# Altium footprint library Regulator.PcbLib: 14 footprints
Each footprint in its own frame and in the unit in brackets; x right, y up, seen from the top. Pads: shape width x height; smd on the part's side, far side on the other; paste and mask are expansions set on the pad; w line width, h text height; cw(c..) or ccw(c..) is an arc to the next point about the centre after c.
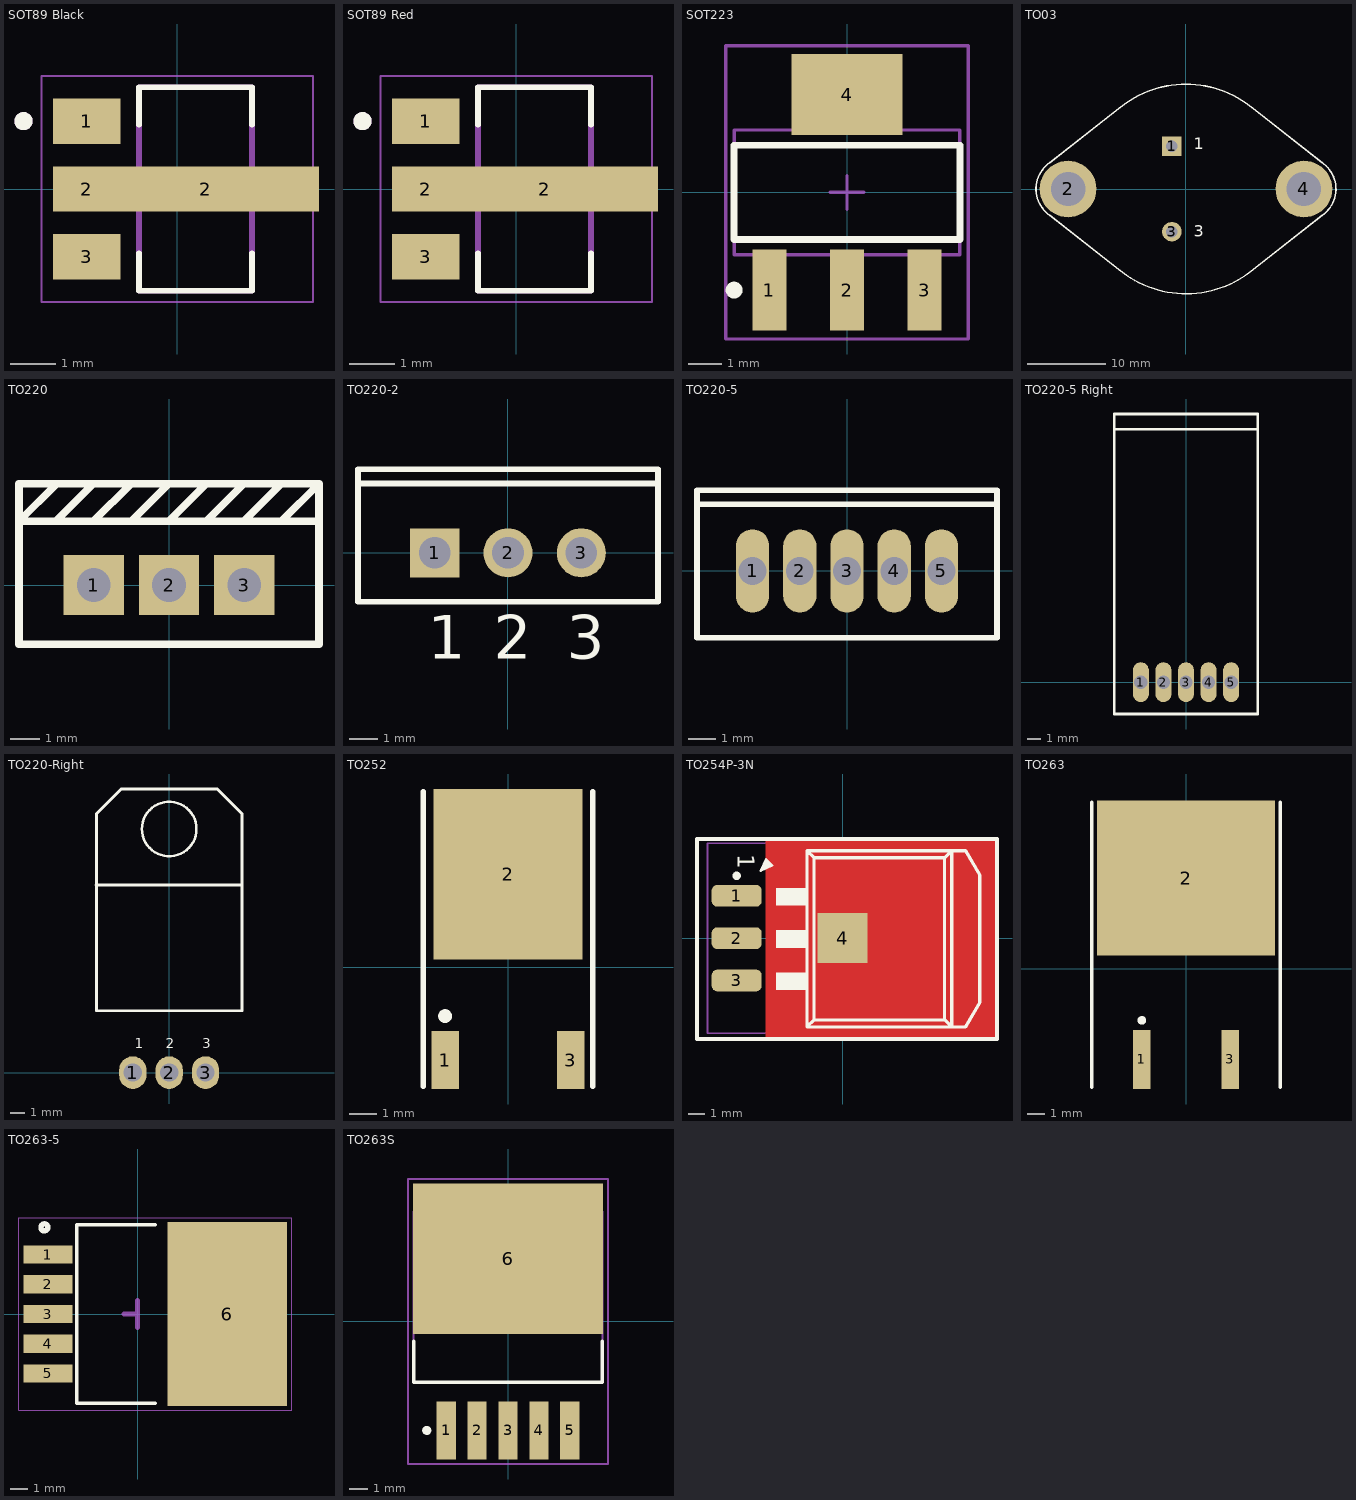
[diagram p0: the footprints below, top view; thin cyan lines are the x and y axes]

## SOT89 Black [mm]
pads (4):
  rect 1.5x1 smd mask+0: 1(-2,1.5) 3(-2,-1.5)
  rect 1.5x1 smd paste-2 mask+0: 2(-2,0)
  rect 5x1 smd paste-2 mask+0: 2(0.635,0)
Top Overlay:
  circle w0.2: c-3.4,1.5 r0.1
  lines w0.127: -0.845,-1.42 -0.845,-2.25 1.655,-2.25 1.655,-1.42 ; -0.845,1.42 -0.845,2.25 1.655,2.25 1.655,1.42
Top Solder:
  region: -1.18,-2.07 -2.82,-2.07 -2.82,-0.93 -1.18,-0.93
  region: -1.18,0.93 -2.82,0.93 -2.82,2.07 -1.18,2.07
Mechanical 13:
  circle w0.2: c-3.4,1.5 r0.1
  lines w0.127: -0.845,-2.25 1.655,-2.25 1.655,2.25 -0.845,2.25 -0.845,-2.25
Mechanical 15:
  lines w0.05: -3,-2.5 3,-2.5 3,2.5 -3,2.5 -3,-2.5
3D body "CircuitWorks-SOT-89.step": height 1.5, standoff 0, extent -2,-2.159 2,2.341

## SOT89 Red [mm]
pads (4):
  rect 1.5x1 smd mask+0: 1(-2,1.5) 3(-2,-1.5)
  rect 1.5x1 smd paste-2 mask+0: 2(-2,0)
  rect 5x1 smd paste-2 mask+0: 2(0.635,0)
Top Overlay:
  circle w0.2: c-3.4,1.5 r0.1
  lines w0.127: -0.845,-1.42 -0.845,-2.25 1.655,-2.25 1.655,-1.42 ; -0.845,1.42 -0.845,2.25 1.655,2.25 1.655,1.42
Top Solder:
  region: -1.18,0.93 -2.82,0.93 -2.82,2.07 -1.18,2.07
  region: -1.18,-2.07 -2.82,-2.07 -2.82,-0.93 -1.18,-0.93
Mechanical 13:
  circle w0.2: c-3.4,1.5 r0.1
  lines w0.127: -0.845,-2.25 -0.845,2.25 1.655,2.25 1.655,-2.25 -0.845,-2.25
Mechanical 15:
  lines w0.05: -3,-2.5 -3,2.5 3,2.5 3,-2.5 -3,-2.5
3D body "CircuitWorks-SOT89.step": height 1.58, standoff 0.08, extent -2,-2.286 2,2.214

## SOT223 [mm]
pads (4):
  rect 1x2.4 smd: 1(-2.3,-2.9) 2(0,-2.9) 3(2.3,-2.9)
  rect 3.3x2.4 smd: 4(0,2.9)
Top Overlay:
  circle w0.25: c-3.35,-2.9 r0.125
  lines w0.2: -3.35,-1.4 -3.35,1.4 3.35,1.4 3.35,-1.4 -3.35,-1.4
Mechanical 13:
  lines w0.1: -3.35,-1.85 -3.35,1.85 3.35,1.85 3.35,-1.85 -3.35,-1.85
Mechanical 15:
  lines w0.1: -0.5,0 0.5,0 ; 0,-0.5 0,0.5 ; -3.6,-4.35 -3.6,4.35 3.6,4.35 3.6,-4.35 -3.6,-4.35
3D body "CircuitWorks-SOT-223.SLDPRT": height 1.66, standoff -0.02, extent -3.25,-3.48 3.25,3.48

## TO03 [mm]
pads (4):
  rect 2.5x2.5 hole 1.5: 1(-1.815,5.46)
  round 7.25 hole 4.4: 2(-15.075,0) 4(15.075,0)
  round 2.5 hole 1.5: 3(-1.815,-5.46)
Top Overlay:
  lines w0.2: -17.427,-3.359 -8.299,-10.521 ; -17.427,-3.358 cw(c-15.075,0) -17.427,3.359 -8.299,10.521 ; -8.613,-10.265 ccw(c0,0) 8.298,-10.521 17.427,-3.359 ; -8.613,10.265 cw(c0,0) 8.613,10.265 ; 8.299,10.521 17.427,3.359 ; 17.308,3.439 cw(c15.075,0) 17.427,-3.358
  text "3" at 1.016,-6.096 h1.5
  text "1" at 1.016,5.08 h1.5
3D body "TO-03.STEP": height 9.15, standoff -2.75, extent -19.65,-13 19.65,13

## TO220 [mil]
pads (3):
  rect 80x80 hole 45: 1(-100,0) 2(0,0) 3(100,0)
Top Overlay:
  lines w10: -150.5,85 -100.5,135 ; -149.5,135 -199.5,85 ; -100.5,85 -50.5,135 ; -50.5,85 -0.5,135 ; -0.5,85 49.5,135 ; 49.5,85 99.5,135 ; 99.5,85 149.5,135 ; 149.5,85 199.5,135 ; -199.5,85 -199.5,135 199.5,135 ; -199.5,85 199.5,85 ; -199.5,85 -199.5,-78.74 199.5,-78.74 199.5,85 ; 199.5,85 199.5,135
3D body "User Library-TO-220-4.STEP": height 789.77, standoff -344.09, extent -200.78,-68.89 200.79,108.27

## TO220-2 [mm]
pads (3):
  rect 1.7x1.7 hole 1.1: 1(-2.54,0)
  round 1.7 hole 1.1: 2(0,0) 3(2.54,0)
Top Overlay:
  lines w0.2: -5.2,2.4 5.2,2.4 ; -5.2,-1.7 5.2,-1.7 5.2,2.9 -5.2,2.9 -5.2,-1.7
  text "2" at -0.5,-3.675 h1.5
  text "3" at 2.04,-3.675 h1.5
  text "1" at -2.79,-3.675 h1.5
3D body "TO220.STEP": height 21.33, standoff -8, extent -5.606,-1.495 5.607,3.195

## TO220-5 [mm]
height 4.5
pads (5):
  oval 1.2x3 hole 1: 1(-3.4,0) 2(-1.7,0) 3(0,0) 4(1.7,0) 5(3.4,0)
Top Overlay:
  lines w0.2: -5.4,2.4 5.4,2.4 ; -5.4,-2.4 -5.4,2.9 5.4,2.9 5.4,-2.4 -5.4,-2.4
3D body "alsrobot-TO-220-5H.STEP": height 16.06, standoff -12.87, extent -5.08,-1.758 5.082,2.763

## TO220-5 Right [mm]
height 4.5
pads (5):
  oval 1.2x3 hole 1: 1(-3.4,0) 2(-1.7,0) 3(0,0) 4(1.7,0) 5(3.4,0)
Top Overlay:
  lines w0.2: -5.4,19.037 5.4,19.037 ; -5.4,-2.4 5.4,-2.4 5.4,20.193 -5.4,20.193 -5.4,-2.4
3D body "User Library-TO-220-5.STEP": height 4.69, standoff -5.8, extent -5.08,-0.178 5.082,19.99

## TO220-Right [mil]
pads (3):
  oval 75x90 hole 50: 1(-100,0) 2(0,0) 3(100,0)
Top Overlay:
  circle w7: c0,670 r75
  lines w7.87: -201,516.22 199,516.22 ; -200,170 200,170 200,712 132,780 -132,780 -200,712 -200,578.74 -200,170
  text "1" at -95,66.93 h27.56
  text "3" at 91,66.93 h27.56
  text "2" at -10,66.93 h27.56
3D body "78XXCV.STEP": height 175, standoff -112.5, extent -198,-8 202,776

## TO252 [mm]
pads (3):
  rect 1x2.1 smd: 1(-2.285,-3.375) 3(2.285,-3.375)
  rect 5.4x6.2 smd: 2(0,3.375)
Top Overlay:
  circle w0.25: c-2.285,-1.775 r0.125
  lines w0.2: -3.085,-4.325 -3.085,6.375 ; 3.085,-4.325 3.085,6.375
3D body "User Library-DPAK-1.step": height 2.39, standoff -0.02, extent -3.27,-4.111 3.27,5.828

## TO254P-3N [mm]
pads (4):
  rrect50% 3x1.3 smd: 1(-6.35,2.54) 2(-6.35,0) 3(-6.35,-2.54)
  rect 3x3 smd: 4(0,0)
Top Layer:
  region: -4.634,5.949 -4.634,-6.051 9.258,-6.051 9.258,5.949
Top Overlay:
  circle w0.25: c-6.35,3.742 r0.125
  region: -3.988,3.022 -3.988,1.956 -2.108,1.956 -2.108,3.022
  region: -3.988,-2.057 -3.988,-3.124 -2.108,-3.124 -2.108,-2.057
  region: -3.988,0.483 -3.988,-0.584 -2.108,-0.584 -2.108,0.483
  lines w0.127: -4.919,4.028 -4.208,4.358 -4.4,4.547 ; -4.919,4.028 -4.589,4.739 -4.4,4.547 ; -4.919,4.028 -4.4,4.547
  lines w0.178: -4.716,4.383 -4.538,4.561 ; -4.564,4.231 -4.386,4.409
  lines w0.2: -2.134,-5.329 -2.134,5.254 ; -2.134,-5.329 6.545,-5.329 ; -2.134,-5.329 -1.71,-4.906 ; -2.134,5.254 6.545,5.254 ; -2.134,5.254 -1.71,4.831 ; -1.71,-4.906 6.121,-4.906 ; -1.71,-4.906 -1.71,4.831 ; -1.71,4.831 6.121,4.831 ; 6.121,-4.906 6.121,4.831 ; 6.121,-4.906 6.545,-5.329 ; 6.121,4.831 6.545,5.254 ; 6.545,-5.329 6.545,5.254 ; 6.545,-5.329 7.366,-5.329 8.238,-3.847 8.238,3.773 7.366,5.254 6.545,5.254
  lines w0.254: -8.731,-6.051 9.269,-6.051 9.269,5.949 -8.731,5.949 -8.731,-6.051
  text "1" at -6.299,5.026 h1
Top Paste:
  region: -0.431,3.773 -0.431,-3.847 7.595,-3.847 7.595,3.773
Top Solder:
  region: -2.413,5.505 -2.413,-5.621 8.179,-5.621 8.179,5.505
  lines w0.254: 8.554,-3.938 8.131,-5.419 ; 8.554,3.863 8.131,5.344 ; -2.462,-5.329 ccw(c-2.134,-5.329) -2.134,-5.658 ; -2.462,-5.329 ccw(c-2.134,-5.329) -2.134,-5.658 ; -2.462,-5.329 -2.462,5.254 ; -2.462,5.254 cw(c-2.134,5.254) -2.134,5.583 ; -2.462,5.254 cw(c-2.134,5.254) -2.134,5.583 ; -2.134,-5.658 6.545,-5.658 7.815,-5.658 ; -2.134,5.583 6.545,5.583 7.815,5.583 ; 7.815,-5.658 ccw(c7.815,-5.329) 8.131,-5.42 ; 7.815,-5.658 ccw(c7.815,-5.329) 8.131,-5.42 ; 7.815,5.583 cw(c7.815,5.254) 8.131,5.345 ; 7.815,5.583 cw(c7.815,5.254) 8.131,5.345 ; 8.567,-3.847 cw(c8.238,-3.847) 8.554,-3.938 ccw(c8.238,-3.847) 8.567,-3.847 ; 8.567,-3.847 8.567,3.773 ; 8.567,3.773 ccw(c8.238,3.773) 8.554,3.863 cw(c8.238,3.773) 8.567,3.773
  lines w0.508: 8.196,-4.669 8.196,4.577
Mechanical 13:
  lines w0.1: -2.675,-4.985 -2.675,4.985 6.475,4.985 6.475,-4.985 -2.675,-4.985
Mechanical 15:
  lines w0.1: -0.5,0 0.5,0 ; 0,-0.5 0,0.5 ; -8.1,-5.7 -8.1,5.7 8.1,5.7 8.1,-5.7 -8.1,-5.7
3D body "254-3.STEP": height 2.53, standoff -0.02, extent -7.339,-5.087 8.101,5.08

## TO263 [mm]
pads (3):
  rect 1x3.4 smd: 1(-2.54,-5.225) 3(2.54,-5.225)
  rect 10.25x8.9 smd: 2(0,5.225)
Top Overlay:
  circle w0.25: c-2.54,-2.975 r0.125
  lines w0.2: -5.425,-6.825 -5.425,9.575 ; 5.425,-6.825 5.425,9.575
3D body "D2PAK.STEP": height 4.68, standoff -0.12, extent -5.047,-6.311 4.953,9.359

## TO263-5 [mm]
pads (6):
  rect 2.8x1.05 smd: 1(-5.125,3.4) 2(-5.125,1.7) 3(-5.125,0) 4(-5.125,-1.7) 5(-5.125,-3.4)
  rect 6.85x10.5 smd: 6(5.125,0)
Top Overlay:
  circle w0.3: c-5.325,4.953 r0.2
  lines w0.2: 1.025,-5.1 -3.475,-5.1 -3.475,5.1 1.025,5.1
Top Paste:
  region: 2.385,4.75 3.665,4.75 3.665,3.251 2.385,3.251
  region: 4.389,4.75 5.665,4.75 5.665,3.254 4.389,3.254
  region: 6.386,4.75 7.665,4.75 7.665,3.251 6.386,3.251
  region: 2.386,2.75 3.665,2.75 3.665,1.251 2.386,1.251
  region: 2.388,0.75 3.665,0.75 3.665,-0.751 2.388,-0.751
  region: 2.386,-1.25 3.665,-1.25 3.665,-2.751 2.386,-2.751
  region: 2.387,-3.25 3.665,-3.25 3.665,-4.758 2.387,-4.758
  region: 4.386,2.75 5.665,2.75 5.665,1.25 4.386,1.25
  region: 6.392,2.75 7.665,2.75 7.665,1.252 6.392,1.252
  region: 6.387,0.75 7.665,0.75 7.665,-0.75 6.387,-0.75
  region: 6.386,-1.25 7.665,-1.25 7.665,-2.751 6.386,-2.751
  region: 6.391,-3.25 7.665,-3.25 7.665,-4.755 6.391,-4.755
  region: 4.386,0.75 5.665,0.75 5.665,-0.75 4.386,-0.75
  region: 4.39,-1.25 5.665,-1.25 5.665,-2.754 4.39,-2.754
  region: 4.391,-3.25 5.665,-3.25 5.665,-4.758 4.391,-4.758
Mechanical 1:
  lines w0.05: -6.775,-5.5 8.825,-5.5 8.825,5.5 -6.775,5.5 -6.775,-5.5
Mechanical 15:
  lines w0.3: -0.762,0 0,0 ; 0,-0.762 0,0 ; 0,0.762 0,0
3D body "User Library-D²PAK TO-263-5.step": height 4.87, standoff 0, extent -6.14,-5.08 8.09,5.08

## TO263S [mm] "D2-PAK, 6-Leads, Body 8.6x10.2mm, Pitch 1.7mm, Lead Span 14.1mm, IPC Medium Density"
height 4.65
pads (6):
  rect 1.05x3.2 smd: 1(-3.4,-6) 2(-1.7,-6) 3(0,-6) 4(1.7,-6) 5(3.4,-6)
  rect 10.45x8.3 smd: 6(0,3.45)
Top Overlay:
  circle w0.25: c-4.475,-6 r0.125
  lines w0.2: -5.2,-1.1 -5.2,-3.35 5.2,-3.35 5.2,-1.1
Mechanical 13:
  lines w0.1: -5.2,-3.35 5.2,-3.35 5.2,6.05 -5.2,6.05 -5.2,-3.35
Mechanical 15:
  lines w0.1: -0.5,0 0.5,0 ; 0,-0.5 0,0.5 ; -5.5,-7.85 5.5,-7.85 5.5,7.85 -5.5,7.85 -5.5,-7.85
3D body "Part2.STEP": height 4.57, standoff 0, extent -5.08,-7.454 5.08,6.896